# EAGLE library part PCA9670 (library mylib)
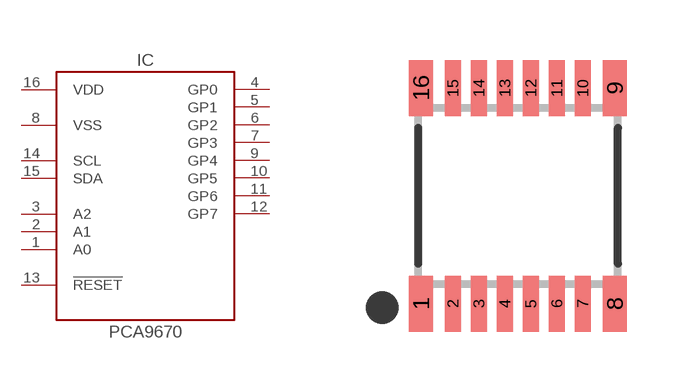
[diagram p140: symbol with the pads of SOT65P510X450X110-16N; footprint SOT65P510X450X110-16N]

Designator prefix IC

## PCA9670 (DIGIKEY: 568-13663-1-ND; MOUSER: 771-PCA9670PW118)  [SOT65P510X450X110-16N]
1  A0
2  A1
3  A2
4  GP0
5  GP1
6  GP2
7  GP3
8  VSS  pwr
9  GP4
10  GP5
11  GP6
12  GP7
13  !RESET!
14  SCL
15  SDA
16  VDD  pwr

## Footprint SOT65P510X450X110-16N (pad centres in mm)
smd 0.6 x 1.4: 1 -2.425,-2.7; 8 2.425,-2.7; 9 2.425,2.7; 16 -2.425,2.7
smd 0.4 x 1.4: 2 -1.625,-2.7; 3 -0.975,-2.7; 4 -0.325,-2.7; 5 0.325,-2.7; 6 0.975,-2.7; 7 1.625,-2.7; 10 1.625,2.7; 11 0.975,2.7; 12 0.325,2.7; 13 -0.325,2.7; 14 -0.975,2.7; 15 -1.625,2.7